# EAGLE library part ARDUINO_DUE_SHIELD (library arduino_due_shield)
Shield suitable for Arduino Due
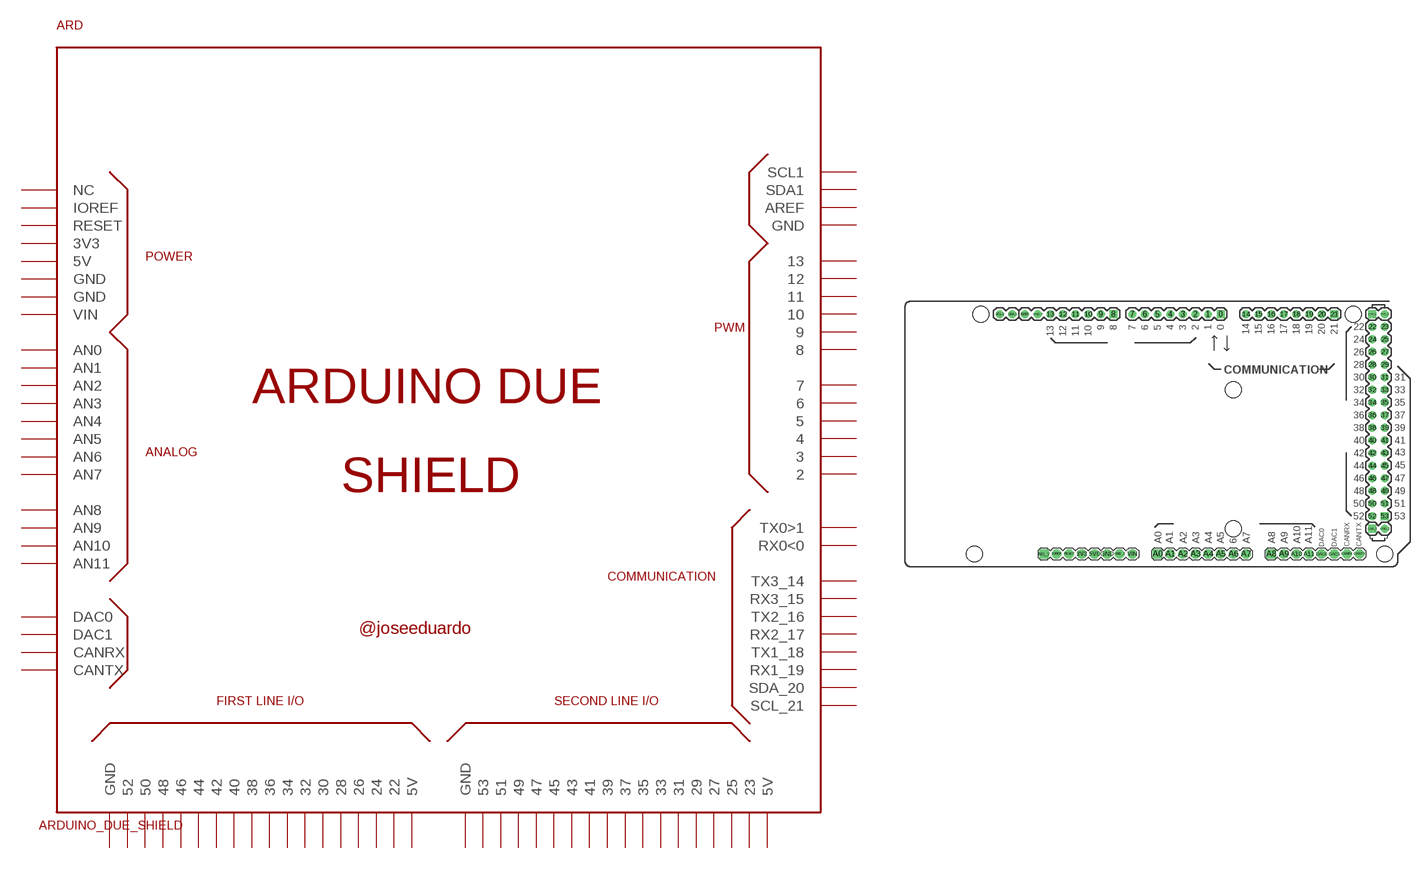
[diagram p1: symbol with the pads of ARDUINO_DUE_SHIELD; footprint ARDUINO_DUE_SHIELD]

Designator prefix ARD

## ARDUINO_DUE_SHIELD  [ARDUINO_DUE_SHIELD]
0  RX0<0
1  TX0>1
2  2
3  3
3V3  3V3
4  4
5  5
5V0  5V
5V0_1  5V
5V0_2  5V
6  6
7  7
8  8
9  9
10  10
11  11
12  12
13  13
14  TX3_14
15  RX3_15
16  TX2_16
17  RX2_17
18  TX1_18
19  RX1_19
20  SDA_20
21  SCL_21
22  22
23  23
24  24
25  25
26  26
27  27
28  28
29  29
30  30
31  31
32  32
33  33
34  34
35  35
36  36
37  37
38  38
39  39
40  40
41  41
42  42
43  43
44  44
45  45
46  46
47  47
48  48
49  49
50  50
51  51
52  52
53  53
A0  AN0
A1  AN1
A2  AN2
A3  AN3
A4  AN4
A5  AN5
A6  AN6
A7  AN7
A8  AN8
A9  AN9
A10  AN10
A11  AN11
AREF  AREF
CANRX  CANRX
CANTX  CANTX
DAC0  DAC0
DAC1  DAC1
GND  GND
GND_1  GND
GND_2  GND
GND_3  GND
GND_4  GND
IOREF  IOREF
NC_2  NC  nc
RESET  RESET
SCL1  SCL1
SDA1  SDA1
VIN  VIN

## Footprint ARDUINO_DUE_SHIELD (pad centres in mm)
drill 1.067 square: 0 63.5,50.8; 5V0_1 93.98,50.8; 8 41.91,50.8; 21 86.36,50.8; 53 96.52,10.16; GND_2 93.98,7.62
drill 1.067: 1 60.96,50.8; 2 58.42,50.8; 3 55.88,50.8; 4 53.34,50.8; 5 50.8,50.8; 5V0_2 96.52,50.8; 6 48.26,50.8; 7 45.72,50.8; 9 39.37,50.8; 10 36.83,50.8; 11 34.29,50.8; 12 31.75,50.8; 13 29.21,50.8; 14 68.58,50.8; 15 71.12,50.8; 16 73.66,50.8; 17 76.2,50.8; 18 78.74,50.8; 19 81.28,50.8; 20 83.82,50.8; 22 93.98,48.26; 23 96.52,48.26; 24 93.98,45.72; 25 96.52,45.72; 26 93.98,43.18; 27 96.52,43.18; 28 93.98,40.64; 29 96.52,40.64; 30 93.98,38.1; 31 96.52,38.1; 32 93.98,35.56; 33 96.52,35.56; 34 93.98,33.02; 35 96.52,33.02; 36 93.98,30.48; 37 96.52,30.48; 38 93.98,27.94; 39 96.52,27.94; 40 93.98,25.4; 41 96.52,25.4; 42 93.98,22.86; 43 96.52,22.86; 44 93.98,20.32; 45 96.52,20.32; 46 93.98,17.78; 47 96.52,17.78; 48 93.98,15.24; 49 96.52,15.24; 50 93.98,12.7; 51 96.52,12.7; 52 93.98,10.16; AREF 24.13,50.8; GND_3 96.52,7.62; GND_4 26.67,50.8; SCL1 19.05,50.8; SDA1 21.59,50.8
drill 1.016 pad 1.88: 3V3 35.56,2.54; 5V0 38.1,2.54; A1 53.34,2.54; A2 55.88,2.54; A3 58.42,2.54; A4 60.96,2.54; A5 63.5,2.54; A6 66.04,2.54; A7 68.58,2.54; A9 76.2,2.54; A10 78.74,2.54; A11 81.28,2.54; CANRX 88.9,2.54; CANTX 91.44,2.54; DAC0 83.82,2.54; DAC1 86.36,2.54; GND 40.64,2.54; GND_1 43.18,2.54; IOREF 30.48,2.54; RESET 33.02,2.54; VIN 45.72,2.54
drill 1.016 pad 1.88 square: A0 50.8,2.54; A8 73.66,2.54; NC_2 27.94,2.54
hole 3.2 at 96.52,2.54
hole 3.2 at 15.24,50.8
hole 3.2 at 90.17,50.8
hole 3.2 at 13.97,2.54
hole 3.2 at 66.04,35.56
hole 3.2 at 66.04,7.62